# Altium schematic symbol library LD29150DT50R.SchLib: 2 symbols
Pins are listed as number, name and electrical type; pins without a type are passive.

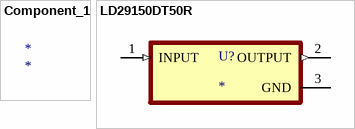
[diagram p0: symbols Component_1 to LD29150DT50R]

## Component_1
designator *

## LD29150DT50R
designator U?
MP: LD29150DT50R; MF: {'manufacturer': u'STMicroelectronics'}; Value: *; Package: None; Availability: Unavailable; Price: None
footprint VREG_L7805CDT-TR
pins: 1 INPUT (in), 2 OUTPUT (out), 3 GND (power)